# EAGLE library part MM74HCT273WM (library Fairchild_By_element14_Batch_1)
Octal D-Type Flip-Flop
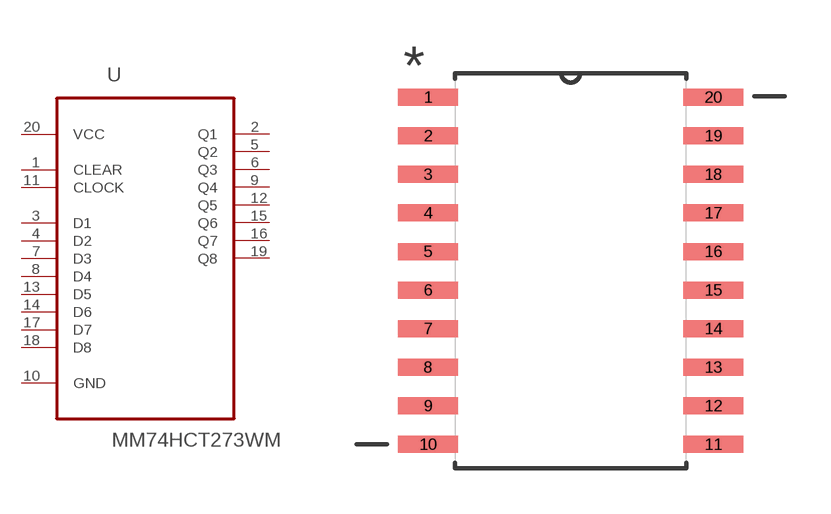
[diagram p326: symbol with the pads of SOIC127P1032X264-20N; footprint SOIC127P1032X264-20N]

Designator prefix U

## MM74HCT273WM (MPN: MM74HCT273WM; OC_FARNELL: 1013876; OC_NEWARK: 78K6048; PACKAGE: SOIC-20; SUPPLIER: Fairchild Semiconductor)  [SOIC127P1032X264-20N]
1  CLEAR  in
2  Q1  out
3  D1  in
4  D2  in
5  Q2  out
6  Q3  out
7  D3  in
8  D4  in
9  Q4  out
10  GND  pas
11  CLOCK  in
12  Q5  out
13  D5  in
14  D6  in
15  Q6  out
16  Q7  out
17  D7  in
18  D8  in
19  Q8  out
20  VCC  pwr

## Footprint SOIC127P1032X264-20N (pad centres in mm)
smd 1.981 x 0.559: 1 -4.699,5.715; 2 -4.699,4.445; 3 -4.699,3.175; 4 -4.699,1.905; 5 -4.699,0.635; 6 -4.699,-0.635; 7 -4.699,-1.905; 8 -4.699,-3.175; 9 -4.699,-4.445; 10 -4.699,-5.715; 11 4.699,-5.715; 12 4.699,-4.445; 13 4.699,-3.175; 14 4.699,-1.905; 15 4.699,-0.635; 16 4.699,0.635; 17 4.699,1.905; 18 4.699,3.175; 19 4.699,4.445; 20 4.699,5.715